# EAGLE library part ES_FV-1_V2 (library Electrosmith_Boards)
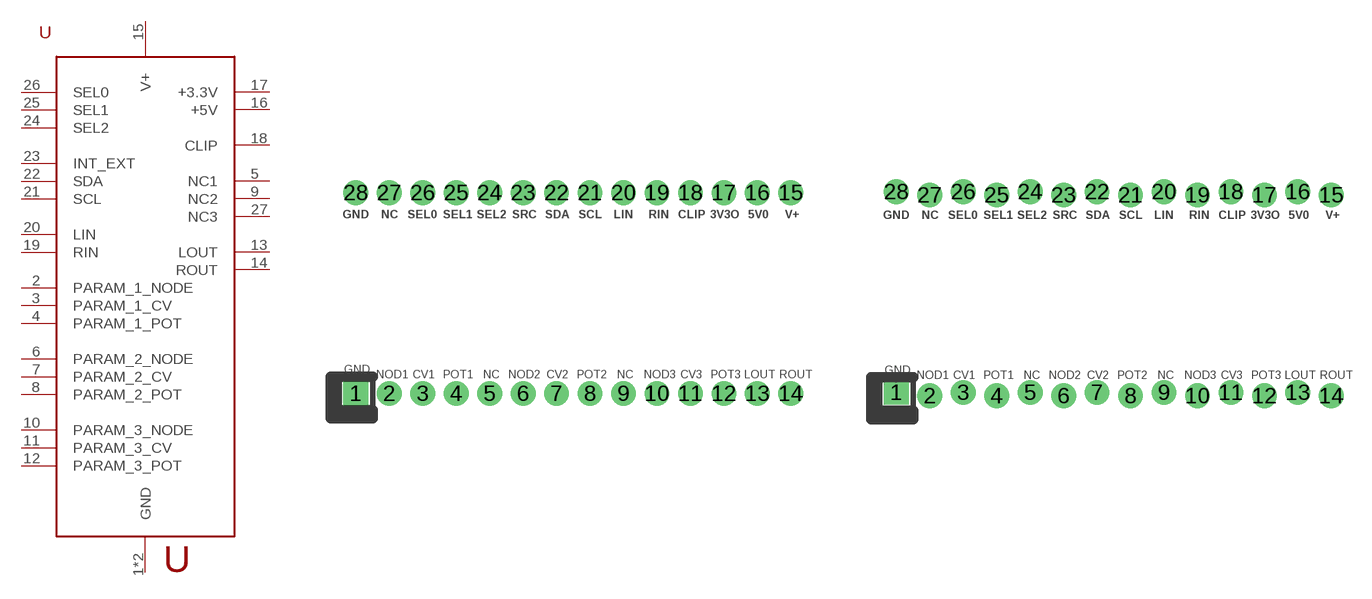
[diagram p4: symbol with the pads of ES_FV-1_V2; footprints ES_FV-1_V2, ES_FV-1_V2_LOCK]

Designator prefix U

## ES_FV-1_V2  [ES_FV-1_V2]
1  GND
2  PARAM_1_NODE
3  PARAM_1_CV
4  PARAM_1_POT
5  NC1
6  PARAM_2_NODE
7  PARAM_2_CV
8  PARAM_2_POT
9  NC2
10  PARAM_3_NODE
11  PARAM_3_CV
12  PARAM_3_POT
13  LOUT
14  ROUT
15  V+
16  +5V
17  +3.3V
18  CLIP
19  RIN
20  LIN
21  SCL
22  SDA
23  INT_EXT
24  SEL2
25  SEL1
26  SEL0
27  NC3
28  GND

## ES_FV-1_V2_LOCK  [ES_FV-1_V2_LOCK]
Pads as for ES_FV-1_V2

## Footprint ES_FV-1_V2 (pad centres in mm)
drill 1.016 pad 1.88 square: 1 1.395,1.395
drill 1.016 pad 1.88: 2 3.935,1.395; 3 6.475,1.395; 4 9.015,1.395; 5 11.555,1.395; 6 14.095,1.395; 7 16.635,1.395; 8 19.175,1.395; 9 21.715,1.395; 10 24.255,1.395; 11 26.795,1.395; 12 29.335,1.395; 13 31.875,1.395; 14 34.415,1.395; 15 34.415,16.635; 16 31.875,16.635; 17 29.335,16.635; 18 26.795,16.635; 19 24.255,16.635; 20 21.715,16.635; 21 19.175,16.635; 22 16.635,16.635; 23 14.095,16.635; 24 11.555,16.635; 25 9.015,16.635; 26 6.475,16.635; 27 3.935,16.635; 28 1.395,16.635

## Footprint ES_FV-1_V2_LOCK (pad centres in mm)
drill 1.016 pad 1.88 square: 1 1.395,1.522
drill 1.016 pad 1.88: 2 3.935,1.268; 3 6.475,1.522; 4 9.015,1.268; 5 11.555,1.522; 6 14.095,1.268; 7 16.635,1.522; 8 19.175,1.268; 9 21.715,1.522; 10 24.255,1.268; 11 26.795,1.522; 12 29.335,1.268; 13 31.875,1.522; 14 34.415,1.268; 15 34.415,16.508; 16 31.875,16.762; 17 29.335,16.508; 18 26.795,16.762; 19 24.255,16.508; 20 21.715,16.762; 21 19.175,16.508; 22 16.635,16.762; 23 14.095,16.508; 24 11.555,16.762; 25 9.015,16.508; 26 6.475,16.762; 27 3.935,16.508; 28 1.395,16.762